# Altium footprint library JMD_Footprints.PcbLib: 13 footprints
Each footprint in its own frame and in the unit in brackets; x right, y up, seen from the top. Pads: shape width x height; smd on the part's side, far side on the other; paste and mask are expansions set on the pad; w line width, h text height; cw(c..) or ccw(c..) is an arc to the next point about the centre after c.
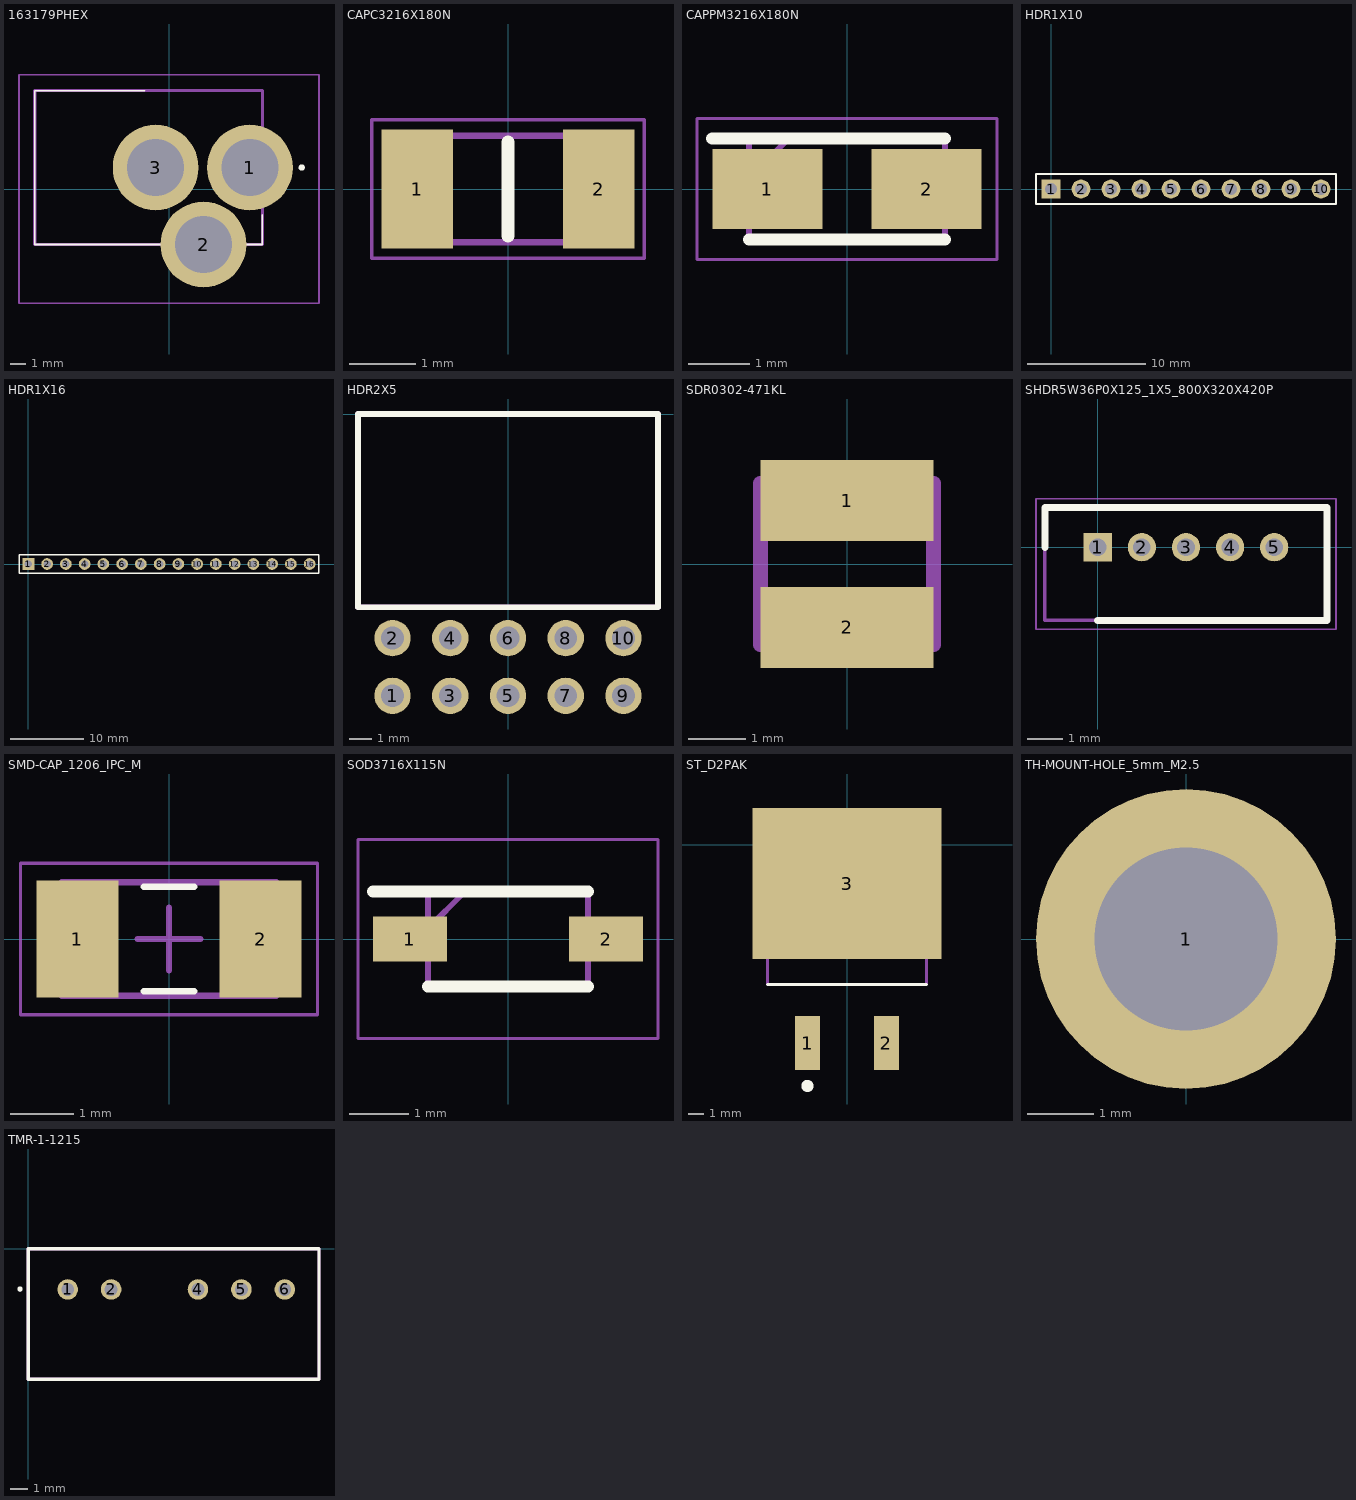
[diagram p0: the footprints below, top view; thin cyan lines are the x and y axes]

## 163179PHEX [mm]
pads (3):
  round 5.46 hole 3.64: 1(5.15,1.365) 2(2.2,-3.535) 3(-0.85,1.365)
Top Overlay:
  lines w0.1: -1.55,6.265 -8.55,6.265 -8.55,-3.535 5.95,-3.535 5.95,-1.635
  lines w0.2: 8.45,1.265 cw(c8.45,1.365) 8.45,1.465 cw(c8.45,1.365) 8.45,1.265
Mechanical 13:
  lines w0.2: -8.55,-3.535 -8.55,6.265 5.95,6.265 5.95,-3.535 -8.55,-3.535
Mechanical 15:
  lines w0.1: -9.55,-7.265 -9.55,7.265 ; -9.55,-7.265 9.55,-7.265 ; -9.55,-7.265 -9.55,7.265 ; -9.55,-7.265 9.55,-7.265 ; -9.55,7.265 9.55,7.265 ; -9.55,7.265 9.55,7.265 ; 9.55,-7.265 9.55,7.265 ; 9.55,-7.265 9.55,7.265
3D body "163-179PH-EX.stp": height 10.85, standoff -3.65, extent -8.5,-3.7 6,5.8

## CAPC3216X180N [mm]
pads (2):
  rect 1.07x1.78 smd: 1(-1.36,0) 2(1.36,0)
Top Overlay:
  lines w0.2: 0,-0.7 0,0.7
Mechanical 13:
  lines w0.1: -1.6,-0.8 -1.6,0.8 1.6,0.8 1.6,-0.8 -1.6,-0.8
Mechanical 15:
  lines w0.05: -2.045,-1.04 -2.045,1.04 2.045,1.04 2.045,-1.04 -2.045,-1.04
3D body "LMK316BC6476ML-T.stp": height 1.8, standoff 0, extent -1.6,-0.8 1.6,0.8

## CAPPM3216X180N [mm]
pads (2):
  rect 1.8x1.3 smd: 1(-1.3,0) 2(1.3,0)
Top Overlay:
  lines w0.2: -2.2,0.825 1.6,0.825 ; -1.6,-0.825 1.6,-0.825
Mechanical 13:
  lines w0.1: -1.6,0.175 -0.95,0.825 ; -1.6,-0.825 -1.6,0.825 1.6,0.825 1.6,-0.825 -1.6,-0.825
Mechanical 15:
  lines w0.05: -2.45,-1.15 -2.45,1.15 2.45,1.15 2.45,-1.15 -2.45,-1.15
3D body "TPSA226K010T0900.stp": height 1.8, standoff 0, extent -1.6,-0.825 1.6,0.825

## HDR1X10 [mm] "Connector; Header; 10 Position"
pads (10):
  rect 1.6x1.6 hole 1: 1(0,0)
  round 1.6 hole 1: 2(2.54,0) 3(5.08,0) 4(7.62,0) 5(10.16,0) 6(12.7,0) 7(15.24,0) 8(17.78,0) 9(20.32,0) 10(22.86,0)
Top Overlay:
  lines w0.2: -1.27,-1.27 -1.27,1.27 0.635,1.27 24.13,1.27 24.13,-1.27 -1.27,-1.27
3D body "Header_1x10_2_54mm.STEP": height 8.5, standoff -3.2, extent -1.27,-1.27 24.13,1.27

## HDR1X16 [mm] "Connector; Header; 16 Position"
pads (16):
  rect 1.6x1.6 hole 1: 1(0,0)
  round 1.6 hole 1: 2(2.54,0) 3(5.08,0) 4(7.62,0) 5(10.16,0) 6(12.7,0) 7(15.24,0) 8(17.78,0) 9(20.32,0) 10(22.86,0) 11(25.4,0) 12(27.94,0) 13(30.48,0) 14(33.02,0) 15(35.56,0) 16(38.1,0)
Top Overlay:
  lines w0.2: -1.27,-1.27 -1.27,1.27 0.635,1.27 39.37,1.27 39.37,-1.27 -1.27,-1.27
3D body "Header_1x16_2_54mm.STEP": height 8.5, standoff -3.2, extent -1.27,-1.27 39.37,1.27

## HDR2X5 [mm]
pads (10):
  round 1.6 hole 1: 1(-5.08,-12.4) 2(-5.08,-9.86) 3(-2.54,-12.4) 4(-2.54,-9.86) 5(0,-12.4) 6(0,-9.86) 7(2.54,-12.4) 8(2.54,-9.86) 9(5.08,-12.4) 10(5.08,-9.86)
Top Overlay:
  lines w0.254: -6.6,-8.5 -6.6,0 6.6,0 6.6,-8.5 -6.6,-8.5
Mechanical 13:
  lines w0.254: -6.6,-8.5 6.6,-8.5 6.6,0 -6.6,0 -6.6,-8.5
3D body "613010243121.stp": height 5.04, standoff -3.26, extent -6.6,-12.668 6.6,-0.068

## SDR0302-471KL [mm]
pads (2):
  rect 3x1.4 smd: 1(0,1.1) 2(0,-1.1)
Mechanical 13:
  lines w0.254: -1.5,-1.4 -1.5,1.4 1.5,1.4 1.5,-1.4 -1.5,-1.4
3D body "SDR0302.STEP": height 3, standoff 0, extent -1.492,-1.5 1.492,1.5

## SHDR5W36P0X125_1X5_800X320X420P [mm]
pads (5):
  rect 0.8x0.8 hole 0.5: 1(0,0)
  round 0.8 hole 0.5: 2(1.25,0) 3(2.5,0) 4(3.75,0) 5(5,0)
Top Overlay:
  lines w0.2: -1.5,0 -1.5,1.125 6.5,1.125 6.5,-2.075 0,-2.075
Mechanical 13:
  lines w0.1: -1.5,-2.075 -1.5,1.125 6.5,1.125 6.5,-2.075 -1.5,-2.075
Mechanical 15:
  lines w0.05: -1.75,-2.325 -1.75,1.375 6.75,1.375 6.75,-2.325 -1.75,-2.325
3D body "53047-0510.stp": height 4.23, standoff -2.27, extent -1.525,-2.05 6.475,1.15

## SMD-CAP_1206_IPC_M [mm]
height 1.8
pads (2):
  rect 1.3x1.85 smd: 1(-1.45,0) 2(1.45,0)
Top Overlay:
  lines w0.1: -0.4,-0.825 0.4,-0.825 ; -0.4,0.825 0.4,0.825
Mechanical 13:
  lines w0.1: -1.7,-0.9 -1.7,0.9 1.7,0.9 1.7,-0.9 -1.7,-0.9
Mechanical 15:
  lines w0.05: -2.35,-1.2 -2.35,1.2 2.35,1.2 2.35,-1.2 -2.35,-1.2
  lines w0.1: -0.5,0 0.5,0 ; 0,-0.5 0,0.5
3D body "CAP 1206-1.4mm.STEP": height 1.4, standoff 0, extent -1.6,-0.8 1.6,0.8

## SOD3716X115N [mm]
pads (2):
  rect 1.25x0.75 smd: 1(-1.65,0) 2(1.65,0)
Top Overlay:
  lines w0.2: -2.275,0.8 1.35,0.8 ; -1.35,-0.8 1.35,-0.8
Mechanical 13:
  lines w0.1: -1.35,0.175 -0.725,0.8 ; -1.35,-0.8 1.35,-0.8 1.35,0.8 -1.35,0.8 -1.35,-0.8
Mechanical 15:
  lines w0.05: -2.525,-1.675 2.525,-1.675 2.525,1.675 -2.525,1.675 -2.525,-1.675
3D body "1N4148W-7-F.stp": height 1.15, standoff 0, extent -1.85,-0.8 1.85,0.8

## ST_D2PAK [mm]
pads (3):
  rect 1.6x3.5 smd: 1(-2.54,-12.775) 2(2.54,-12.775)
  rect 12.2x9.75 smd: 3(0,-2.5)
Top Overlay:
  circle w0.39: c-2.553,-15.542 r0.198
  lines w0.2: -5.138,-9 5.138,-9
Mechanical 13:
  lines w0.2: -5.138,-9 5.138,-9 5.138,0 -5.138,0 -5.138,-9
3D body "TO263-3-2.stp": height 4.22, standoff 0, extent -4.869,-13.524 4.953,1.078

## TH-MOUNT-HOLE_5mm_M2.5 [mm]
pads (1):
  round 4.5 hole 2.75: 1(0,0)

## TMR-1-1215 [mm]
pads (5):
  round 1.2 hole 0.75: 1(2.3,-2.375) 2(4.84,-2.375) 4(9.92,-2.375) 5(12.46,-2.375) 6(15,-2.375)
Top Overlay:
  circle w0.2: c-0.491,-2.351 r0.058
  lines w0.2: 0,-7.62 17,-7.62 17,0 0,0 0,-7.62
Mechanical 13:
  lines w0.2: 0,-7.62 0,0 17,0 17,-7.62 0,-7.62
3D body "TMR_1-1211.stp": height 11.4, standoff -3.2, extent -0.025,-7.725 17.375,0.025